# Altium schematic symbol library Quartz.SchLib: 1 symbol
Pins are listed as number, name and electrical type; pins without a type are passive.

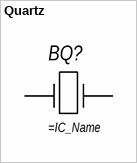
[diagram p0: symbol Quartz]

## Quartz
designator BQ?
pins: 1, 2